# Altium footprint library TLV70033QDDCRQ1.PcbLib: 3 footprints
Each footprint in its own frame and in the unit in brackets; x right, y up, seen from the top. Pads: shape width x height; smd on the part's side, far side on the other; paste and mask are expansions set on the pad; w line width, h text height; cw(c..) or ccw(c..) is an arc to the next point about the centre after c.
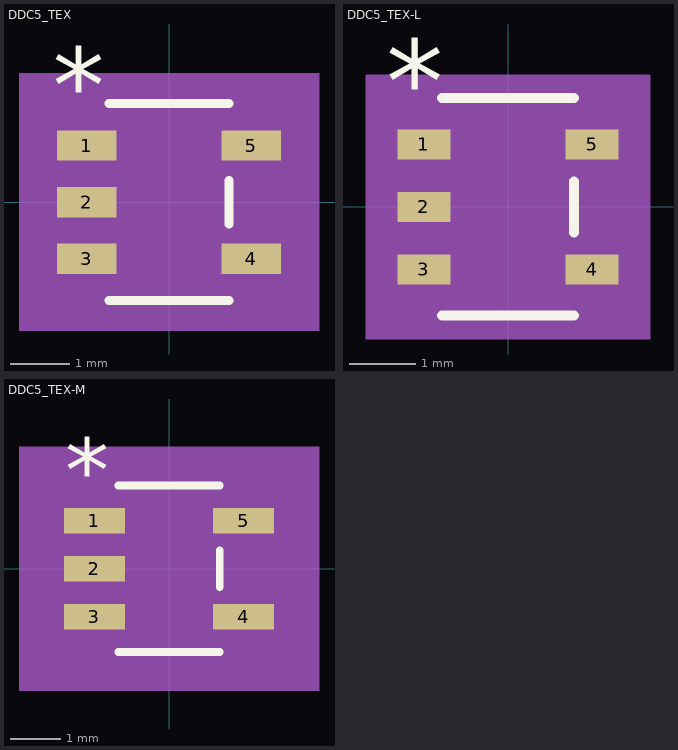
[diagram p0: the footprints below, top view; thin cyan lines are the x and y axes]

## DDC5_TEX [mil]
pads (5):
  rect 39.5x20 smd paste+0 mask+0: 1(-54.25,37.4) 2(-54.25,0) 3(-54.25,-37.4) 4(54.25,-37.4) 5(54.25,37.4)
Top Overlay:
  lines w6: -39.5,-65 39.5,-65 ; -39.5,65 39.5,65 ; 39.5,-14.3 39.5,14.3
  text "*" at -76.75,52.4 h50
Mechanical 5:
  region: 99,-85 -99,-85 -99,85 99,85
Mechanical 13:
  lines w0: -12,60 ccw(c0,60) 12,60
  lines w1: -60,-47.4 -60,-27.4 -34.5,-27.4 -34.5,-47.4 -60,-47.4 ; -60,-10 -60,10 -34.5,10 -34.5,-10 -60,-10 ; -60,27.4 -60,47.4 -34.5,47.4 -34.5,27.4 -60,27.4 ; -34.5,-60 34.5,-60 34.5,60 -34.5,60 -34.5,-60 ; 34.5,-47.4 34.5,-27.4 60,-27.4 60,-47.4 34.5,-47.4 ; 34.5,27.4 34.5,47.4 60,47.4 60,27.4 34.5,27.4
  text "*" at -37,14.4 h50
Mechanical 15:
  region: 44.5,-70 -44.5,-70 -44.5,-57.4 -84,-57.4 -84,57.4 -44.5,57.4 -44.5,70 44.5,70 44.5,57.4 84,57.4 84,-57.4 44.5,-57.4
  lines w6: -84,-57.4 -44.5,-57.4 -44.5,-70 44.5,-70 44.5,-57.4 84,-57.4 84,57.4 44.5,57.4 44.5,70 -44.5,70 -44.5,57.4 -84,57.4 -84,-57.4
3D body "DDC5_TEX.step": height 43.11, standoff 0, extent -60,-60 60,60

## DDC5_TEX-L [mil]
pads (5):
  rect 31.5x18 smd paste+0 mask+0: 1(-50.25,37.4) 2(-50.25,0) 3(-50.25,-37.4) 4(50.25,-37.4) 5(50.25,37.4)
Top Overlay:
  lines w6: -39.5,-65 39.5,-65 ; -39.5,65 39.5,65 ; 39.5,-15.3 39.5,15.3
  text "*" at -72.75,50.4 h50
Mechanical 5:
  region: 85,-79 -85,-79 -85,79 85,79
Mechanical 13:
  lines w0: -12,60 ccw(c0,60) 12,60
  lines w1: -60,-47.4 -60,-27.4 -34.5,-27.4 -34.5,-47.4 -60,-47.4 ; -60,-10 -60,10 -34.5,10 -34.5,-10 -60,-10 ; -60,27.4 -60,47.4 -34.5,47.4 -34.5,27.4 -60,27.4 ; -34.5,-60 34.5,-60 34.5,60 -34.5,60 -34.5,-60 ; 34.5,-47.4 34.5,-27.4 60,-27.4 60,-47.4 34.5,-47.4 ; 34.5,27.4 34.5,47.4 60,47.4 60,27.4 34.5,27.4
  text "*" at -37,12.4 h50
Mechanical 15:
  region: 38.5,-64 -38.5,-64 -38.5,-50.4 -70,-50.4 -70,50.4 -38.5,50.4 -38.5,64 38.5,64 38.5,50.4 70,50.4 70,-50.4 38.5,-50.4
  lines w6: -70,-50.4 -38.5,-50.4 -38.5,-64 38.5,-64 38.5,-50.4 70,-50.4 70,50.4 38.5,50.4 38.5,64 -38.5,64 -38.5,50.4 -70,50.4 -70,-50.4
3D body "DDC5_TEX.step": height 43.11, standoff 0, extent -60,-60 60,60

## DDC5_TEX-M [mil]
pads (5):
  rect 47.5x20 smd paste+0 mask+0: 1(-58.25,37.4) 2(-58.25,0) 3(-58.25,-37.4) 4(58.25,-37.4) 5(58.25,37.4)
Top Overlay:
  lines w6: -39.5,-65 39.5,-65 ; -39.5,65 39.5,65 ; 39.5,-14.3 39.5,14.3
  text "*" at -80.75,52.4 h50
Mechanical 5:
  region: 117,-95 -117,-95 -117,95 117,95
Mechanical 13:
  lines w0: -12,60 ccw(c0,60) 12,60
  lines w1: -60,-47.4 -60,-27.4 -34.5,-27.4 -34.5,-47.4 -60,-47.4 ; -60,-10 -60,10 -34.5,10 -34.5,-10 -60,-10 ; -60,27.4 -60,47.4 -34.5,47.4 -34.5,27.4 -60,27.4 ; -34.5,-60 34.5,-60 34.5,60 -34.5,60 -34.5,-60 ; 34.5,-47.4 34.5,-27.4 60,-27.4 60,-47.4 34.5,-47.4 ; 34.5,27.4 34.5,47.4 60,47.4 60,27.4 34.5,27.4
  text "*" at -37,14.4 h50
Mechanical 15:
  region: 54.5,-80 -54.5,-80 -54.5,-67.4 -102,-67.4 -102,67.4 -54.5,67.4 -54.5,80 54.5,80 54.5,67.4 102,67.4 102,-67.4 54.5,-67.4
  lines w6: -102,-67.4 -54.5,-67.4 -54.5,-80 54.5,-80 54.5,-67.4 102,-67.4 102,67.4 54.5,67.4 54.5,80 -54.5,80 -54.5,67.4 -102,67.4 -102,-67.4
3D body "DDC5_TEX.step": height 43.11, standoff 0, extent -60,-60 60,60